# EAGLE library part TMF882X (library TMF882X)
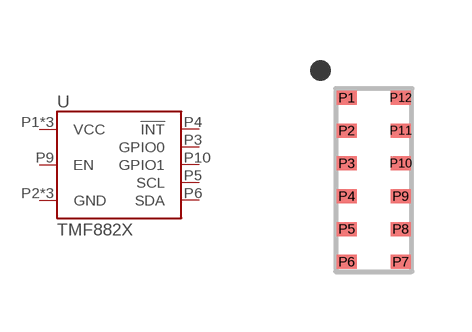
[diagram p0: symbol with the pads of TMF882X; footprint TMF882X]

Designator prefix U

## TMF882X_TMF8820 (PROD_ID: IC-16432)  [TMF882X]
P1  VCC  pwr
P2  GND  pwr
P3  GPIO0
P4  !INT!
P5  SCL
P6  SDA
P7  VCC  pwr
P8  GND  pwr
P9  EN  in
P10  GPIO1
P11  GND  pwr
P12  VCC  pwr

## TMF882X_TMF8821 (PROD_ID: IC-16433)  [TMF882X]
Pads as for TMF882X

## Footprint TMF882X (pad centres in mm)
smd 0.5 x 0.35: P1 -0.686,2.032; P2 -0.686,1.212; P3 -0.686,0.392; P4 -0.686,-0.428; P5 -0.686,-1.248; P6 -0.686,-2.068; P7 0.664,-2.068; P8 0.664,-1.248; P9 0.664,-0.428; P10 0.664,0.392; P11 0.664,1.212; P12 0.664,2.032